# Altium footprint library TPS92602BQPWPRQ1.PcbLib: 3 footprints
Each footprint in its own frame and in the unit in brackets; x right, y up, seen from the top. Pads: shape width x height; smd on the part's side, far side on the other; paste and mask are expansions set on the pad; w line width, h text height; cw(c..) or ccw(c..) is an arc to the next point about the centre after c.
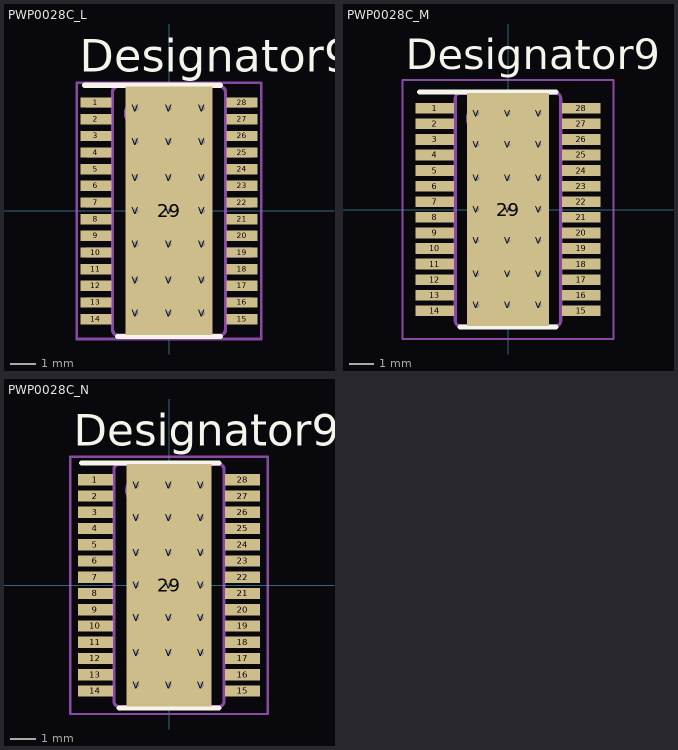
[diagram p0: the footprints below, top view; thin cyan lines are the x and y axes]

## PWP0028C_L [mm]
pads (50):
  rect 1.2x0.4 smd paste+0 mask+0.051: 1(-2.85,4.225) 2(-2.85,3.575) 3(-2.85,2.925) 4(-2.85,2.275) 5(-2.85,1.625) 6(-2.85,0.975) 7(-2.85,0.325) 8(-2.85,-0.325) 9(-2.85,-0.975) 10(-2.85,-1.625) 11(-2.85,-2.275) 12(-2.85,-2.925) 13(-2.85,-3.575) 14(-2.85,-4.225) 15(2.85,-4.225) 16(2.85,-3.575) 17(2.85,-2.925) 18(2.85,-2.275) 19(2.85,-1.625) 20(2.85,-0.975) 21(2.85,-0.325) 22(2.85,0.325) 23(2.85,0.975) 24(2.85,1.625) 25(2.85,2.275) 26(2.85,2.925) 27(2.85,3.575) 28(2.85,4.225)
  rect 3.4x9.7 smd paste-1.7 mask-1.702: 29(0,0)
  round 0.5 hole 0.203 mask-0.152: V(-1.3,-1.3) V(-1.3,0) V(-1.3,1.3) V(0,-1.3) V(0,0) V(0,1.3) V(1.3,-1.3) V(1.3,0) V(1.3,1.3)
  round 0.5 hole 0.203 mask-0.241: V(-1.3,2.7) V(-1.3,4) V(-1.3,-4) V(-1.3,-2.7) V(0,2.7) V(0,-2.7) V(0,4) V(0,-4) V(1.3,2.7) V(1.3,4) V(1.3,-4) V(1.3,-2.7)
Top Overlay:
  lines w0.2: -3.3,4.9 2,4.9 ; -2,-4.9 2,-4.9
  text "Designator9" at -3.48,5.436 h1.27
Top Paste:
  region: -1.549,-2.553 -1.55,-2.544 -1.55,2.544 -1.549,2.553 -1.546,2.561 -1.542,2.569 -1.536,2.576 -1.529,2.582 -1.521,2.586 -1.513,2.589 -1.503,2.59 1.503,2.59 1.513,2.589 1.521,2.586 1.529,2.582 1.536,2.576 1.542,2.569 1.546,2.561 1.549,2.553 1.55,2.544 1.55,-2.544 1.549,-2.553 1.546,-2.561 1.542,-2.569 1.536,-2.576 1.529,-2.582 1.521,-2.586 1.513,-2.589 1.503,-2.59 -1.503,-2.59 -1.513,-2.589 -1.521,-2.586 -1.529,-2.582 -1.536,-2.576 -1.542,-2.569 -1.546,-2.561
Top Solder:
  region: -1.549,-2.553 -1.55,-2.544 -1.55,2.544 -1.549,2.553 -1.546,2.561 -1.542,2.569 -1.536,2.576 -1.529,2.582 -1.521,2.586 -1.513,2.589 -1.503,2.59 1.503,2.59 1.513,2.589 1.521,2.586 1.529,2.582 1.536,2.576 1.542,2.569 1.546,2.561 1.549,2.553 1.55,2.544 1.55,-2.544 1.549,-2.553 1.546,-2.561 1.542,-2.569 1.536,-2.576 1.529,-2.582 1.521,-2.586 1.513,-2.589 1.503,-2.59 -1.503,-2.59 -1.513,-2.589 -1.521,-2.586 -1.529,-2.582 -1.536,-2.576 -1.542,-2.569 -1.546,-2.561
Mechanical 13:
  drawing of 346 lines, arcs and shapes, not listed
  text ".Designator" at -1.335,2 h1.27
Mechanical 15:
  lines w0.1: -0.5,0 0.5,0 ; 0,-0.5 0,0.5 ; -3.6,-5 3.6,-5 3.6,5 -3.6,5 -3.6,-5
3D body: height 0.25, standoff 0, extent 0,0 0.254,0.254

## PWP0028C_M [mm]
pads (50):
  rect 1.6x0.45 smd paste+0 mask+0.051: 1(-3.05,4.225) 2(-3.05,3.575) 3(-3.05,2.925) 4(-3.05,2.275) 5(-3.05,1.625) 6(-3.05,0.975) 7(-3.05,0.325) 8(-3.05,-0.325) 9(-3.05,-0.975) 10(-3.05,-1.625) 11(-3.05,-2.275) 12(-3.05,-2.925) 13(-3.05,-3.575) 14(-3.05,-4.225) 15(3.05,-4.225) 16(3.05,-3.575) 17(3.05,-2.925) 18(3.05,-2.275) 19(3.05,-1.625) 20(3.05,-0.975) 21(3.05,-0.325) 22(3.05,0.325) 23(3.05,0.975) 24(3.05,1.625) 25(3.05,2.275) 26(3.05,2.925) 27(3.05,3.575) 28(3.05,4.225)
  rect 3.4x9.7 smd paste-1.7 mask-1.702: 29(0,0)
  round 0.5 hole 0.203 mask-0.152: V(-1.3,-1.3) V(-1.3,0) V(-1.3,1.3) V(0,-1.3) V(0,0) V(0,1.3) V(1.3,-1.3) V(1.3,0) V(1.3,1.3)
  round 0.5 hole 0.203 mask-0.241: V(-1.3,2.7) V(-1.3,4) V(-1.3,-4) V(-1.3,-2.7) V(0,2.7) V(0,-2.7) V(0,4) V(0,-4) V(1.3,2.7) V(1.3,4) V(1.3,-4) V(1.3,-2.7)
Top Overlay:
  lines w0.2: -3.7,4.9 2,4.9 ; -2,-4.9 2,-4.9
  text "Designator9" at -4.267,5.842 h1.27
Top Paste:
  region: -1.549,-2.553 -1.55,-2.544 -1.55,2.544 -1.549,2.553 -1.546,2.561 -1.542,2.569 -1.536,2.576 -1.529,2.582 -1.521,2.586 -1.513,2.589 -1.503,2.59 1.503,2.59 1.513,2.589 1.521,2.586 1.529,2.582 1.536,2.576 1.542,2.569 1.546,2.561 1.549,2.553 1.55,2.544 1.55,-2.544 1.549,-2.553 1.546,-2.561 1.542,-2.569 1.536,-2.576 1.529,-2.582 1.521,-2.586 1.513,-2.589 1.503,-2.59 -1.503,-2.59 -1.513,-2.589 -1.521,-2.586 -1.529,-2.582 -1.536,-2.576 -1.542,-2.569 -1.546,-2.561
Top Solder:
  region: -1.549,-2.553 -1.55,-2.544 -1.55,2.544 -1.549,2.553 -1.546,2.561 -1.542,2.569 -1.536,2.576 -1.529,2.582 -1.521,2.586 -1.513,2.589 -1.503,2.59 1.503,2.59 1.513,2.589 1.521,2.586 1.529,2.582 1.536,2.576 1.542,2.569 1.546,2.561 1.549,2.553 1.55,2.544 1.55,-2.544 1.549,-2.553 1.546,-2.561 1.542,-2.569 1.536,-2.576 1.529,-2.582 1.521,-2.586 1.513,-2.589 1.503,-2.59 -1.503,-2.59 -1.513,-2.589 -1.521,-2.586 -1.529,-2.582 -1.536,-2.576 -1.542,-2.569 -1.546,-2.561
Mechanical 13:
  drawing of 346 lines, arcs and shapes, not listed
  text ".Designator" at -1.335,2 h1.27
Mechanical 15:
  lines w0.1: -4.4,-5.4 4.4,-5.4 4.4,5.4 -4.4,5.4 -4.4,-5.4 ; -0.5,0 0.5,0 -0.5,0 ; 0,-0.5 0,0.5 0,-0.5
3D body: height 0.25, standoff 0, extent 0,0 0.254,0.254

## PWP0028C_N [mm]
pads (50):
  rect 1.4x0.45 smd paste+0 mask+0.051: 1(-2.95,4.225) 2(-2.95,3.575) 3(-2.95,2.925) 4(-2.95,2.275) 5(-2.95,1.625) 6(-2.95,0.975) 7(-2.95,0.325) 8(-2.95,-0.325) 9(-2.95,-0.975) 10(-2.95,-1.625) 11(-2.95,-2.275) 12(-2.95,-2.925) 13(-2.95,-3.575) 14(-2.95,-4.225) 15(2.95,-4.225) 16(2.95,-3.575) 17(2.95,-2.925) 18(2.95,-2.275) 19(2.95,-1.625) 20(2.95,-0.975) 21(2.95,-0.325) 22(2.95,0.325) 23(2.95,0.975) 24(2.95,1.625) 25(2.95,2.275) 26(2.95,2.925) 27(2.95,3.575) 28(2.95,4.225)
  rect 3.4x9.7 smd paste-1.7 mask-1.702: 29(0,0)
  round 0.5 hole 0.203 mask-0.152: V(-1.3,-1.3) V(-1.3,0) V(-1.3,1.3) V(0,-1.3) V(0,0) V(0,1.3) V(1.3,-1.3) V(1.3,0) V(1.3,1.3)
  round 0.5 hole 0.203 mask-0.241: V(-1.3,2.7) V(-1.3,4) V(-1.3,-4) V(-1.3,-2.7) V(0,2.7) V(0,-2.7) V(0,4) V(0,-4) V(1.3,2.7) V(1.3,4) V(1.3,-4) V(1.3,-2.7)
Top Overlay:
  lines w0.2: -3.5,4.9 2,4.9 ; -2,-4.9 2,-4.9
  text "Designator9" at -3.81,5.588 h1.27
Top Paste:
  region: -1.549,-2.553 -1.55,-2.544 -1.55,2.544 -1.549,2.553 -1.546,2.561 -1.542,2.569 -1.536,2.576 -1.529,2.582 -1.521,2.586 -1.513,2.589 -1.503,2.59 1.503,2.59 1.513,2.589 1.521,2.586 1.529,2.582 1.536,2.576 1.542,2.569 1.546,2.561 1.549,2.553 1.55,2.544 1.55,-2.544 1.549,-2.553 1.546,-2.561 1.542,-2.569 1.536,-2.576 1.529,-2.582 1.521,-2.586 1.513,-2.589 1.503,-2.59 -1.503,-2.59 -1.513,-2.589 -1.521,-2.586 -1.529,-2.582 -1.536,-2.576 -1.542,-2.569 -1.546,-2.561
Top Solder:
  region: -1.549,-2.553 -1.55,-2.544 -1.55,2.544 -1.549,2.553 -1.546,2.561 -1.542,2.569 -1.536,2.576 -1.529,2.582 -1.521,2.586 -1.513,2.589 -1.503,2.59 1.503,2.59 1.513,2.589 1.521,2.586 1.529,2.582 1.536,2.576 1.542,2.569 1.546,2.561 1.549,2.553 1.55,2.544 1.55,-2.544 1.549,-2.553 1.546,-2.561 1.542,-2.569 1.536,-2.576 1.529,-2.582 1.521,-2.586 1.513,-2.589 1.503,-2.59 -1.503,-2.59 -1.513,-2.589 -1.521,-2.586 -1.529,-2.582 -1.536,-2.576 -1.542,-2.569 -1.546,-2.561
Mechanical 13:
  drawing of 346 lines, arcs and shapes, not listed
  text ".Designator" at -1.335,2 h1.27
Mechanical 15:
  lines w0.1: -3.95,-5.15 -3.95,5.15 3.95,5.15 3.95,-5.15 -3.95,-5.15 ; -0.5,0 0.5,0 -0.5,0 ; 0,-0.5 0,0.5 0,-0.5
3D body: height 0.25, standoff 0, extent 0,0 0.254,0.254